# Altium footprint library Ale.PcbLib: 181 footprints (part 12 of 12)
Each footprint in its own frame and in the unit in brackets; x right, y up, seen from the top. Pads: shape width x height; smd on the part's side, far side on the other; paste and mask are expansions set on the pad; w line width, h text height; cw(c..) or ccw(c..) is an arc to the next point about the centre after c.
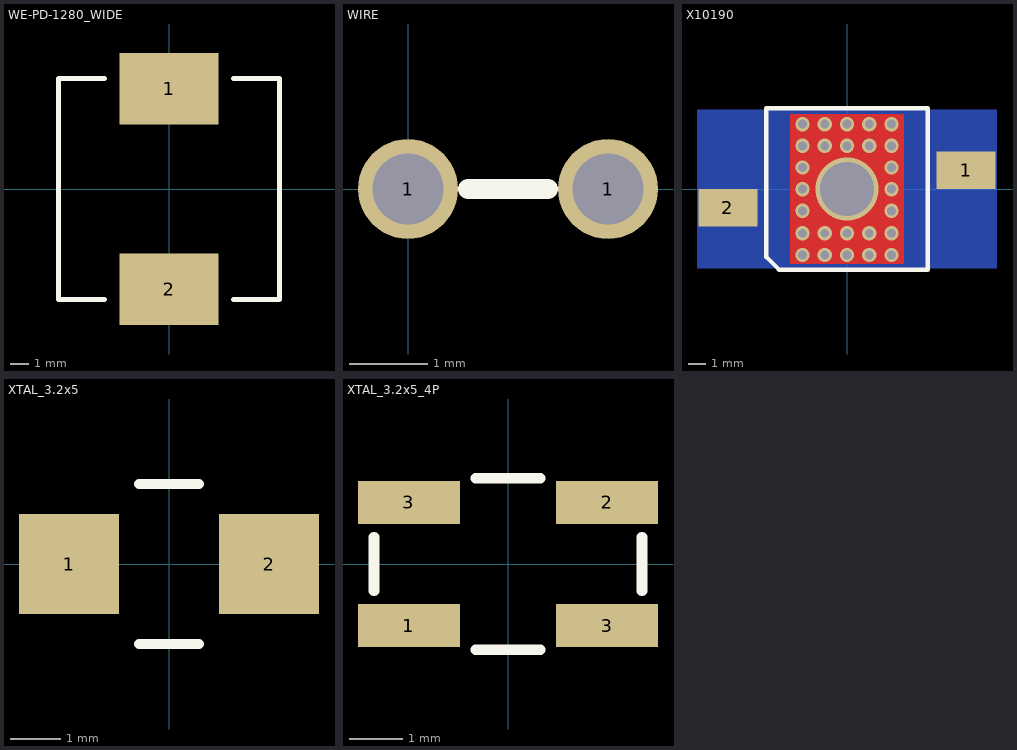
[diagram p11: the footprints below, top view; thin cyan lines are the x and y axes]

## WE-PD-1280_WIDE [mm] "Power Choke (Würth Elektronik), easier soldering"
height 8
pads (2):
  rect 5.4x3.9 smd: 1(0,5.45) 2(0,-5.45)
Top Overlay:
  lines w0.254: -3.5,-6 -6,-6 -6,6 -3.5,6 ; 3.5,-6 6,-6 6,6 3.5,6
3D body: height 8, standoff 0, extent -5.999,-5.999 5.999,5.999

## WIRE [mm] "Connection wire"
height 1
pads (2):
  round 1.27 hole 0.9: 1(0,0) 1(2.54,0)
Top Overlay:
  lines w0.254: 0.762,0 1.778,0

## X10190 [mm] "Seoul Semiconductors X10190 series LED"
pads (2):
  rect 3.3x2.1 smd: 1(6.65,1.05) 2(-6.65,-1.05)
via 2.488,-1.217 diameter 0.8 hole 0.5
via 2.488,-0.007 diameter 0.8 hole 0.5
via 2.488,1.203 diameter 0.8 hole 0.5
via -2.488,-1.217 diameter 0.8 hole 0.5
via -2.488,-0.007 diameter 0.8 hole 0.5
via -2.488,1.203 diameter 0.8 hole 0.5
via 2.488,-3.683 diameter 0.8 hole 0.5
via 2.488,-2.473 diameter 0.8 hole 0.5
via 1.244,-3.683 diameter 0.8 hole 0.5
via 1.244,-2.473 diameter 0.8 hole 0.5
via 0,-3.683 diameter 0.8 hole 0.5
via 0,-2.473 diameter 0.8 hole 0.5
via -1.244,-3.683 diameter 0.8 hole 0.5
via -1.244,-2.473 diameter 0.8 hole 0.5
via -2.488,-3.683 diameter 0.8 hole 0.5
via -2.488,-2.473 diameter 0.8 hole 0.5
via 2.488,2.413 diameter 0.8 hole 0.5
via 2.488,3.623 diameter 0.8 hole 0.5
via 1.244,2.413 diameter 0.8 hole 0.5
via 1.244,3.623 diameter 0.8 hole 0.5
via 0,2.413 diameter 0.8 hole 0.5
via 0,3.623 diameter 0.8 hole 0.5
via -1.244,2.413 diameter 0.8 hole 0.5
via -1.244,3.623 diameter 0.8 hole 0.5
via -2.488,2.413 diameter 0.8 hole 0.5
via -2.488,3.623 diameter 0.8 hole 0.5
via 0,0 diameter 3.5 hole 3
Top Layer:
  rectangle: -3.175,-4.191 3.175,4.191
Bottom Layer:
  rectangle: -8.382,-4.445 8.382,4.445
Top Overlay:
  lines w0.254: -4.5,-3.8 -4.5,4.5 4.5,4.5 4.5,-4.5 -3.8,-4.5 -4.5,-3.8
Top Solder:
  rectangle: -2.159,-2.159 2.159,2.159

## XTAL_3.2x5 [mm] "3.2 x 5 mm SMD quartz crystal with ground"
height 1
pads (2):
  rect 2x2 smd: 1(-2,0) 2(2,0)
Top Overlay:
  lines w0.2: -0.6,-1.6 0.6,-1.6 ; -0.6,1.6 0.6,1.6
3D body: height 1, standoff 0, extent -2.5,-1.6 2.5,1.6

## XTAL_3.2x5_4P [mm] "3.2 x 5 mm SMD quartz crystal with ground"
height 1
pads (4):
  rect 1.9x0.8 smd: 1(-1.85,-1.15) 2(1.85,1.15) 3(-1.85,1.15) 3(1.85,-1.15)
Top Overlay:
  lines w0.2: -2.5,-0.5 -2.5,0.5 ; -0.6,-1.6 0.6,-1.6 ; -0.6,1.6 0.6,1.6 ; 2.5,-0.5 2.5,0.5
3D body: height 1, standoff 0, extent -2.5,-1.6 2.5,1.6